# EAGLE library part MEM2075-00-140-01-A (library MEM2075-00-140-01-A)
GCT (GLOBAL CONNECTOR TECHNOLOGY) - MEM2075-00-140-01-A - MICRO SD CARD CONN, PUSH-PUSH, 9POS, SMT Source: Datasheet
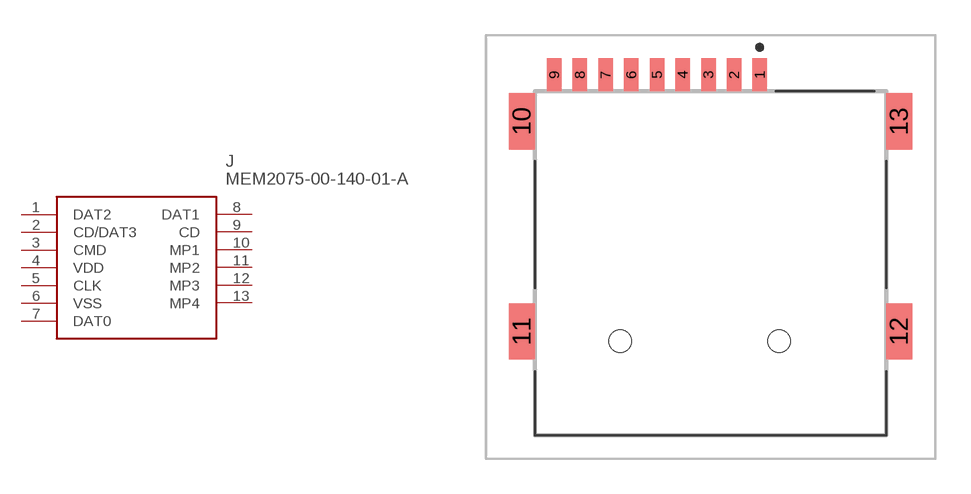
[diagram p0: symbol with the pads of MEM20750014001A; footprint MEM20750014001A]

Designator prefix J

## MEM2075-00-140-01-A (Description: GCT (GLOBAL CONNECTOR TECHNOLOGY) - MEM2075-00-140-01-A - MICRO SD CARD CONN, PUSH-PUSH, 9POS, SMT; Height: 1.45mm; Manufacturer_Name: GCT (GLOBAL CONNECTOR TECHNOLOGY); Manufacturer_Part_Number: MEM2075-00-140-01-A; Mouser_Part_Number: 640-MEM20750014001A; Mouser_Price-Stock: https://www.mouser.co.uk/ProductDetail/GCT/MEM2075-00-140-01-A?qs=KUoIvG%2F9IlZvfWpeERlq3Q%3D%3D)  [MEM20750014001A]
1  DAT2
2  CD/DAT3
3  CMD
4  VDD
5  CLK
6  VSS
7  DAT0
8  DAT1
9  CD
10  MP1
11  MP2
12  MP3
13  MP4

## Footprint MEM20750014001A (pad centres in mm)
MEM2075-00-140-01-A
smd 0.62 x 1.4: 1 2.105,7.375; 2 1.005,7.375; 3 -0.095,7.375; 4 -1.195,7.375; 5 -2.295,7.375; 6 -3.395,7.375; 7 -4.495,7.375; 8 -5.595,7.375; 9 -6.695,7.375
smd 1.1 x 2.4: 10 -8.075,5.375; 11 -8.075,-3.625; 12 8.075,-3.625; 13 8.075,5.375
hole 0.95 at -3.875,-4.045
hole 0.95 at 2.925,-4.045